# EAGLE library part EXB28V (library Public)
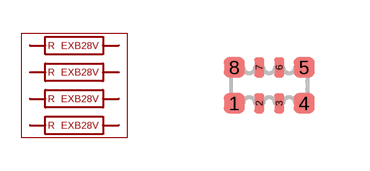
[diagram p80: symbol with the pads of EXB28V; footprint EXB28V]

Designator prefix R

## EXB28V  [EXB28V]
1  1.2
2  2.2
3  3.2
4  4.2
5  4.1
6  3.1
7  2.1
8  1.1

## Footprint EXB28V (pad centres in mm)
Chip Resistor Array 0402x4 4 resistors in 2.0 mm x 1.0 mm size Source: PANASONIC .. aoc0000ce1.pdf
smd 0.525 x 0.5: 1 -0.875,-0.45; 4 0.875,-0.45; 5 0.875,0.45; 8 -0.875,0.45
smd 0.25 x 0.5: 2 -0.25,-0.45; 3 0.25,-0.45; 6 0.25,0.45; 7 -0.25,0.45